# Altium footprint library 按键.PcbLib: 74 footprints (part 1 of 5)
Each footprint in its own frame and in the unit in brackets; x right, y up, seen from the top. Pads: shape width x height; smd on the part's side, far side on the other; paste and mask are expansions set on the pad; w line width, h text height; cw(c..) or ccw(c..) is an arc to the next point about the centre after c.
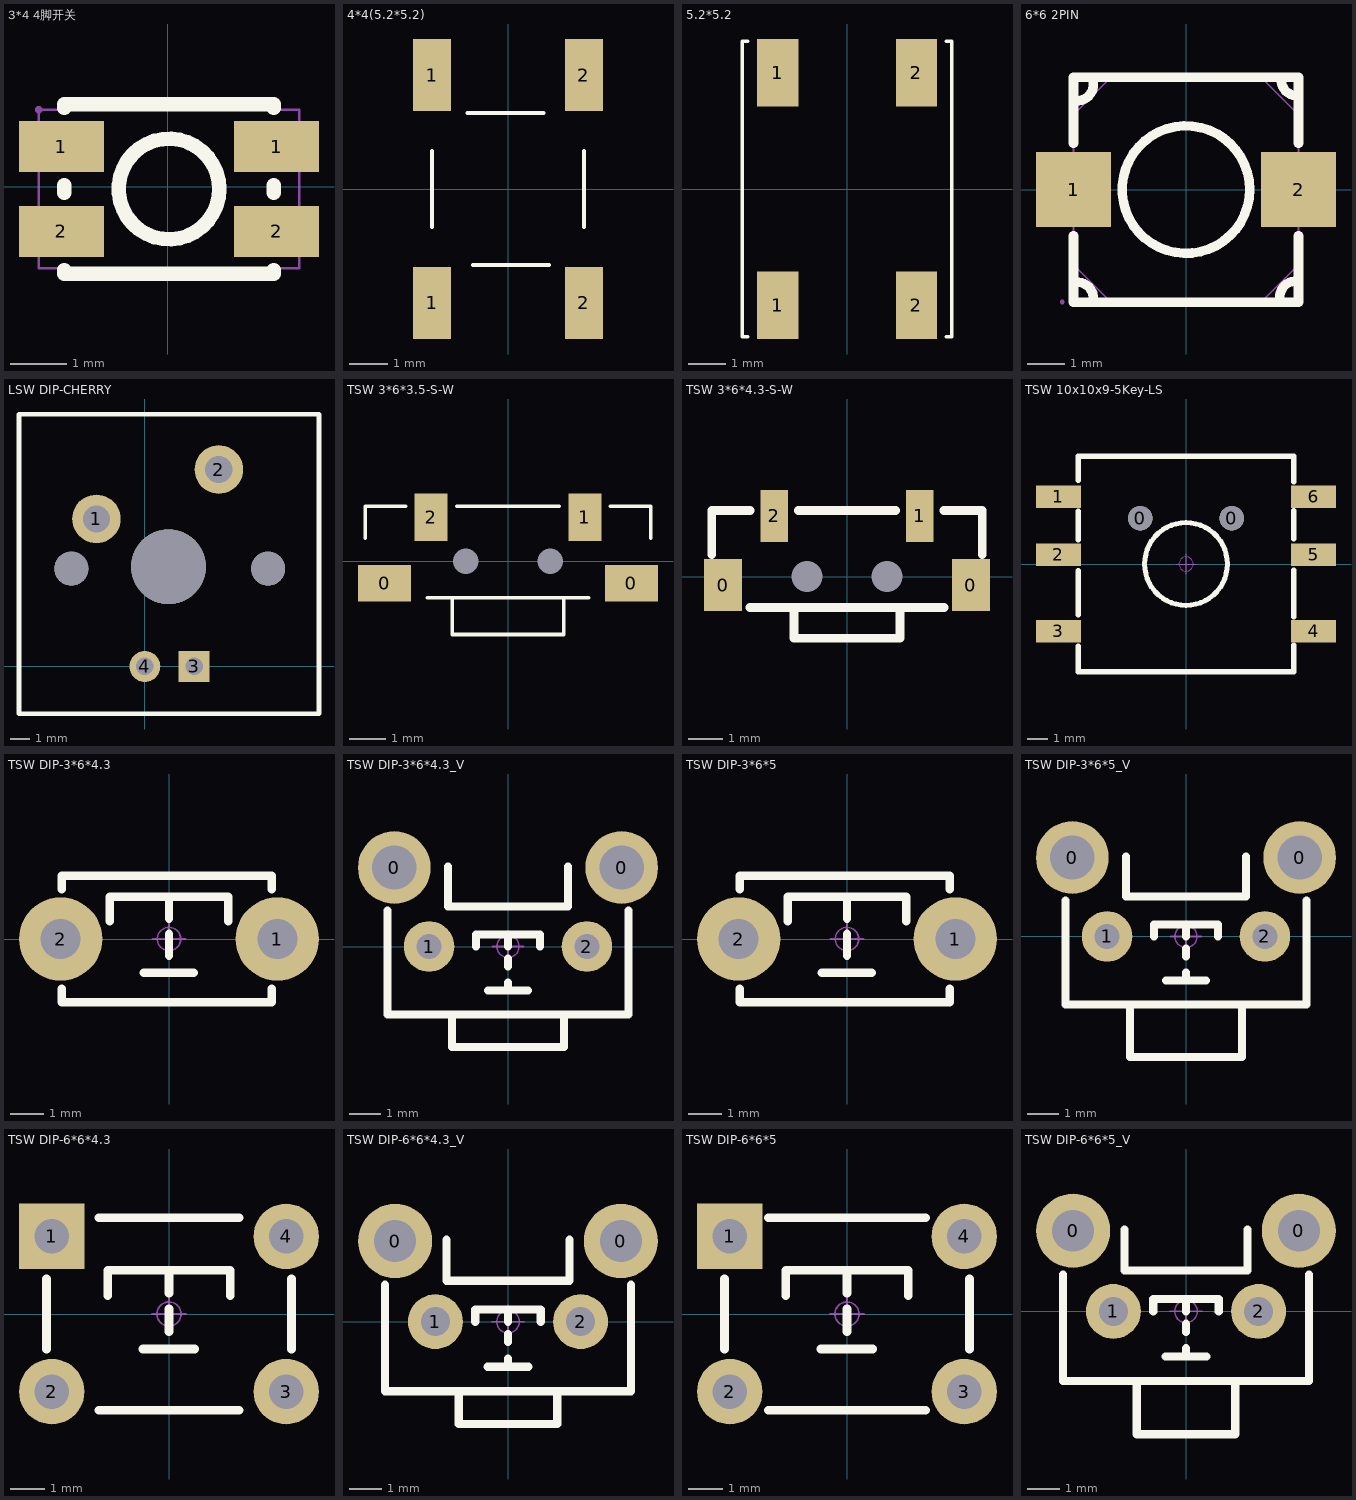
[diagram p0: the footprints below, top view; thin cyan lines are the x and y axes]

## 3*4 4脚开关 [mm]
pads (4):
  rect 1.5x0.9 smd: 1(-1.876,0.709) 1(1.924,0.709) 2(-1.876,-0.791) 2(1.924,-0.791)
Top Overlay:
  circle w0.254: c0.024,-0.041 r0.889
  lines w0.254: -1.826,-1.472 -1.826,-1.541 1.874,-1.541 1.874,-1.472 ; -1.826,-0.11 -1.826,0.028 ; -1.826,1.39 -1.826,1.459 1.874,1.459 1.874,1.39 ; 1.874,-0.11 1.874,0.028
Mechanical 15:
  region: -2.216,1.359 -2.216,1.384 -2.251,1.419 -2.301,1.419 -2.336,1.384 -2.336,1.359 -2.336,1.334 -2.301,1.299 -2.251,1.299 -2.216,1.334
  region: -2.276,1.009 -1.676,1.009 -1.676,0.409 -2.276,0.409
  region: -2.276,-0.491 -1.676,-0.491 -1.676,-1.091 -2.276,-1.091
  region: 1.724,-0.491 2.324,-0.491 2.324,-1.091 1.724,-1.091
  region: 1.724,1.009 2.324,1.009 2.324,0.409 1.724,0.409
  lines w0.051: -2.276,-1.441 -2.276,1.359 2.324,1.359 2.324,-1.441 -2.276,-1.441

## 4*4(5.2*5.2) [mm]
pads (4):
  rect 1x1.9 smd: 1(-2,-3) 1(-2,3) 2(2,-3) 2(2,3)
Top Overlay:
  lines w0.1: -2,-1 -2,1 ; -1.063,2 0.937,2 ; -0.924,-2 1.076,-2 ; 2,-1 2,1

## 5.2*5.2 [mm]
pads (4):
  rect 1.1x1.8 smd: 1(-1.85,-3.1) 1(-1.85,3.1) 2(1.85,-3.1) 2(1.85,3.1)
Top Overlay:
  lines w0.1: -2.65,-3.937 -2.794,-3.937 -2.794,3.937 -2.65,3.937 ; 2.65,-3.937 2.794,-3.937 2.794,3.937 2.65,3.937

## 6*6 2PIN [mm]
pads (2):
  rect 2x2 smd: 1(-3,0) 2(3,0)
Top Overlay:
  circle w0.254: c0,0 r1.7
  lines w0.254: -3,-1.231 -3,-3 3,-3 3,-1.231 ; -3,1.231 -3,3 3,3 3,1.231 ; -2.931,-2.469 cw(c-2.901,-2.901) -2.47,-2.931 ; -2.932,2.37 ccw(c-2.901,2.801) -2.47,2.831 ; 2.5,-2.9 cw(c2.932,-2.87) 2.962,-2.438 ; 2.538,2.962 ccw(c2.97,2.932) 3,2.5
Mechanical 15:
  region: -3.24,-3 -3.241,-2.976 -3.275,-2.941 -3.324,-2.941 -3.359,-2.976 -3.36,-3 -3.359,-3.024 -3.324,-3.059 -3.275,-3.059 -3.24,-3.024
  region: 2.3,-0.7 2.3,0.7 3.3,0.7 3.3,-0.7
  region: -3.3,-0.7 -3.3,0.7 -2.3,0.7 -2.3,-0.7
  lines w0.051: -3,-2 -3,2 -2,3 2,3 3,2 3,-2 2,-3 -2,-3 -3,-2

## LSW DIP-CHERRY [mm]
pads (7):
  round 2.5 hole 1.4: 1(-2.489,7.595) 2(3.81,10.135)
  rect 1.6x1.6 hole 0.9: 3(2.54,0)
  round 1.6 hole 0.9: 4(0,0)
  round 1.75 hole 1.75: ""(-3.785,5.029) ""(6.35,5.029)
  round 3.85 hole 3.85: ""(1.219,5.131)
Top Overlay:
  lines w0.254: -6.477,-2.438 8.966,-2.438 8.966,12.979 -6.477,12.979 -6.477,-2.438
3D body "凯?": height 3.45, standoff -15.75, extent -6.581,-2.669 9.019,12.931

## TSW 3*6*3.5-S-W [mm] "侧立贴片3*6*3.5"
pads (6):
  rect 1.45x1 smd: 0(-3.375,-0.6) 0(3.375,-0.6)
  round 0 hole 0.7: 0(-1.15,0) 0(1.15,0)
  rect 0.9x1.3 smd: 1(2.1,1.2) 2(-2.1,1.2)
Top Overlay:
  lines w0.1: -3.9,0.635 -3.9,1.495 ; -3.895,1.5 -2.794,1.5 ; -2.2,-1 2.2,-1 ; -1.524,-1.016 -1.524,-2 1.524,-2 1.524,-1.016 ; -1.397,1.5 1.397,1.5 ; 2.794,1.5 3.895,1.5 ; 3.9,0.635 3.9,1.495
3D body "TSW 3x6x4.3-S-W.STEP": height 3.51, standoff -0.74, extent -3.9,-1.79 3.9,1.91

## TSW 3*6*4.3-S-W [mm] "侧立贴片3*6*4.3"
pads (6):
  rect 1.1x1.5 smd: 0(-3.575,-0.25) 0(3.575,-0.25)
  round 0 hole 0.9: 0(-1.15,0) 0(1.15,0)
  rect 0.8x1.5 smd: 1(2.1,1.75) 2(-2.1,1.75)
Top Overlay:
  lines w0.254: -3.9,0.635 -3.9,1.9 -3.895,1.905 -2.794,1.905 ; -2.794,-0.889 2.794,-0.889 ; -1.524,-0.889 -1.524,-1.778 1.524,-1.778 1.524,-0.889 ; -1.397,1.905 1.397,1.905 ; 2.794,1.905 3.895,1.905 3.9,1.91 3.9,0.635
3D body "TSW 3x6x4.3-S-W.STEP": height 3.51, standoff -0.74, extent -3.9,-1.79 3.9,1.91

## TSW 10x10x9-5Key-LS [mm] "6脚，长：10.5，宽：10，高：9mm"
pads (8):
  round 1.2 hole 1.2: 0(-2.25,2.25) 0(2.25,2.25)
  rect 2.2x1.1 smd: 1(-6.262,3.3) 2(-6.262,0.45) 3(-6.262,-3.3) 4(6.262,-3.3) 5(6.262,0.45) 6(6.262,3.3)
Top Overlay:
  circle w0.25: c0,0 r2.032
  lines w0.254: -5.287,-4.017 -5.287,-5.287 5.287,-5.287 5.287,-3.984 ; -5.287,-2.493 -5.287,-0.334 ; -5.287,1.19 -5.287,2.587 ; -5.287,4.111 -5.287,5.287 5.287,5.287 5.287,4.017 ; 5.287,-2.587 5.287,-0.301 ; 5.287,1.223 5.287,2.62
Mechanical 15:
  circle w0.05: c0,0 r0.35
  lines w0.05: -0.5,0 0.5,0 ; 0,-0.5 0,0.5
3D body "TSW 10x10x9-5Key-LS.STEP": height 9.05, standoff -0.65, extent -6.5,-5.16 6.5,5.16

## TSW DIP-3*6*4.3 [mm] "3*6*4.3mm"
pads (2):
  round 2.5 hole 1.2: 1(3.25,0) 2(-3.25,0)
Top Overlay:
  lines w0.254: -3.212,-1.499 -3.212,-1.9 3.088,-1.9 3.088,-1.499 ; -3.212,1.499 -3.212,1.9 3.088,1.9 3.088,1.499 ; -1.778,0.533 -1.778,1.27 1.778,1.27 1.778,0.533 ; -0.762,-1.016 0.737,-1.016 ; 0,-0.508 0,0.152 ; 0,0.61 0,1.27
Mechanical 15:
  circle w0.05: c0,0 r0.35
  lines w0.05: -0.5,0 0.5,0 ; 0,-0.5 0,0.5
3D body "TSW DIP-3x6x4.3.STEP": height 4.31, standoff -3.49, extent -3.914,-1.75 3.914,1.75

## TSW DIP-3*6*4.3_V [mm] "侧按轻触开关 3*6*4.3mm"
pads (4):
  round 2.3 hole 1.4: 0(-3.6,2.5) 0(3.6,2.5)
  round 1.6 hole 0.8: 1(-2.5,0) 2(2.5,0)
Top Overlay:
  lines w0.254: -3.81,1.143 -3.81,-2.159 3.81,-2.159 3.81,1.143 ; -1.905,2.54 -1.905,1.27 1.905,1.27 1.905,2.54 ; -1.778,-2.159 -1.778,-3.175 1.778,-3.175 1.778,-2.159 ; -1.016,0 -1.016,0.381 1.016,0.381 1.016,0 ; -0.635,-1.397 0.635,-1.397 ; 0,-1.397 0,-1.143 ; 0,-0.635 0,-0.381 ; 0,0 0,0.381
Mechanical 15:
  circle w0.05: c0,0 r0.35
  lines w0.05: -0.5,0 0.5,0 ; 0,-0.5 0,0.5
3D body "TSW DIP-3x6x4.3_V.STEP": height 4.45, standoff -2.8, extent -3.996,-3.05 3.996,3.5

## TSW DIP-3*6*5 [mm] "3*6*5mm"
pads (2):
  round 2.5 hole 1.2: 1(3.25,0) 2(-3.25,0)
Top Overlay:
  lines w0.254: -3.212,-1.499 -3.212,-1.9 3.088,-1.9 3.088,-1.499 ; -3.212,1.499 -3.212,1.9 3.088,1.9 3.088,1.499 ; -1.778,0.533 -1.778,1.27 1.778,1.27 1.778,0.533 ; -0.762,-1.016 0.737,-1.016 ; 0,-0.508 0,0.152 ; 0,0.61 0,1.27
Mechanical 15:
  circle w0.05: c0,0 r0.35
  lines w0.05: -0.5,0 0.5,0 ; 0,-0.5 0,0.5
3D body "TSW DIP-3x6x5.STEP": height 5.01, standoff -3.49, extent -3.914,-1.75 3.914,1.75

## TSW DIP-3*6*5_V [mm] "侧按轻触开关 3*6*5mm"
pads (4):
  round 2.3 hole 1.4: 0(-3.6,2.5) 0(3.6,2.5)
  round 1.6 hole 0.8: 1(-2.5,0) 2(2.5,0)
Top Overlay:
  lines w0.254: -3.81,1.143 -3.81,-2.159 3.81,-2.159 3.81,1.143 ; -1.905,2.54 -1.905,1.27 1.905,1.27 1.905,2.54 ; -1.778,-2.159 -1.778,-3.81 1.778,-3.81 1.778,-2.159 ; -1.016,0 -1.016,0.381 1.016,0.381 1.016,0 ; -0.635,-1.397 0.635,-1.397 ; 0,-1.397 0,-1.143 ; 0,-0.635 0,-0.381 ; 0,0 0,0.381
Mechanical 15:
  circle w0.05: c0,0 r0.35
  lines w0.05: -0.5,0 0.5,0 ; 0,-0.5 0,0.5
3D body "TSW DIP-3x6x5_V.STEP": height 4.45, standoff -2.8, extent -3.996,-3.75 3.996,3.5

## TSW DIP-6*6*4.3 [mm] "6*6*4.3mm"
pads (4):
  rect 1.9x1.9 hole 1: 1(-3.4,2.25)
  round 1.9 hole 1: 2(-3.4,-2.25) 3(3.4,-2.25) 4(3.4,2.25)
Top Overlay:
  lines w0.254: -3.556,-1.016 -3.556,1.016 ; -2.032,-2.794 2.032,-2.794 ; -2.032,2.794 2.032,2.794 ; -1.778,0.533 -1.778,1.27 1.778,1.27 1.778,0.533 ; -0.762,-1.016 0.737,-1.016 ; 0,-0.508 0,0.152 ; 0,0.61 0,1.27 ; 3.556,-1.016 3.556,1.016
Bottom Overlay:
  lines w0.254: -2.032,-2.286 2.032,-2.286 ; -2.032,2.286 2.032,2.286
Mechanical 15:
  circle w0.05: c0,0 r0.35
  lines w0.05: -0.5,0 0.5,0 ; 0,-0.5 0,0.5
3D body "TSW DIP-6x6x4.3.STEP": height 4.25, standoff -3.45, extent -4.106,-3 4.106,3

## TSW DIP-6*6*4.3_V [mm] "侧按轻触开关 6*6*4.3mm"
pads (4):
  round 2.3 hole 1.3: 0(-3.5,2.5) 0(3.5,2.5)
  round 1.7 hole 0.9: 1(-2.25,0) 2(2.25,0)
Top Overlay:
  lines w0.254: -3.81,1.143 -3.81,-2.159 3.81,-2.159 3.81,1.143 ; -1.905,2.54 -1.905,1.27 1.905,1.27 1.905,2.54 ; -1.524,-2.159 -1.524,-3.175 1.524,-3.175 1.524,-2.159 ; -1.016,0 -1.016,0.381 1.016,0.381 1.016,0 ; -0.635,-1.397 0.635,-1.397 ; 0,-1.397 0,-1.143 ; 0,-0.635 0,-0.381 ; 0,0 0,0.381
Mechanical 15:
  circle w0.05: c0,0 r0.35
  lines w0.05: -0.5,0 0.5,0 ; 0,-0.5 0,0.5
3D body "TSW DIP-6x6x4.3_V.STEP": height 7.47, standoff -3.4, extent -4.183,-3.023 4.184,4.127

## TSW DIP-6*6*5 [mm] "6*6*5mm"
pads (4):
  rect 1.9x1.9 hole 1: 1(-3.4,2.25)
  round 1.9 hole 1: 2(-3.4,-2.25) 3(3.4,-2.25) 4(3.4,2.25)
Top Overlay:
  lines w0.254: -3.556,-1.016 -3.556,1.016 ; -2.286,-2.794 2.286,-2.794 ; -2.286,2.794 2.286,2.794 ; -1.778,0.533 -1.778,1.27 1.778,1.27 1.778,0.533 ; -0.762,-1.016 0.737,-1.016 ; 0,-0.508 0,0.152 ; 0,0.61 0,1.27 ; 3.556,-1.016 3.556,1.016
Bottom Overlay:
  lines w0.254: -2.286,-2.286 2.286,-2.286 ; -2.286,2.286 2.286,2.286
Mechanical 15:
  circle w0.05: c0,0 r0.35
  lines w0.05: -0.5,0 0.5,0 ; 0,-0.5 0,0.5
3D body "TSW DIP-6x6x5.STEP": height 4.95, standoff -3.45, extent -4.106,-3 4.106,3

## TSW DIP-6*6*5_V [mm] "侧按轻触开关 6*6*5mm"
pads (4):
  round 2.3 hole 1.3: 0(-3.5,2.5) 0(3.5,2.5)
  round 1.7 hole 0.9: 1(-2.25,0) 2(2.25,0)
Top Overlay:
  lines w0.254: -3.81,1.143 -3.81,-2.159 3.81,-2.159 3.81,1.143 ; -1.905,2.54 -1.905,1.27 1.905,1.27 1.905,2.54 ; -1.524,-2.159 -1.524,-3.81 1.524,-3.81 1.524,-2.159 ; -1.016,0 -1.016,0.381 1.016,0.381 1.016,0 ; -0.635,-1.397 0.635,-1.397 ; 0,-1.397 0,-1.143 ; 0,-0.635 0,-0.381 ; 0,0 0,0.381
Mechanical 15:
  circle w0.05: c0,0 r0.35
  lines w0.05: -0.5,0 0.5,0 ; 0,-0.5 0,0.5
3D body "TSW DIP-6x6x5_V.STEP": height 7.47, standoff -3.4, extent -4.183,-3.723 4.184,4.127